# EAGLE library part M.2-SOM-BREAKOUT-BOARD-V0.2-0228_WAFER-HY2.0-4PWB (library M.2 SoM breakout board V1.0)
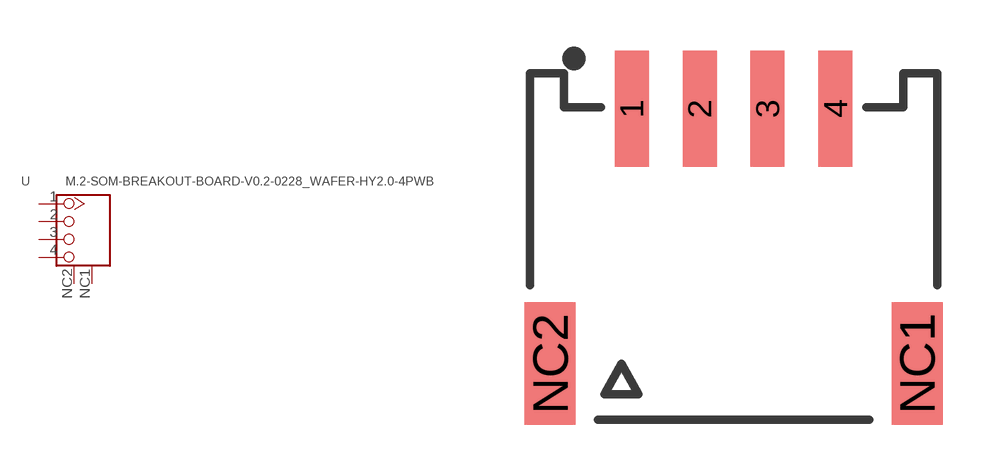
[diagram p3: symbol with the pads of M.2-SOM-BREAKOUT-BOARD-V0.2-0228_WAFER-HY2.0-4PWB; footprint M.2-SOM-BREAKOUT-BOARD-V0.2-0228_WAFER-HY2.0-4PWB]

Designator prefix -

## M.2-SOM-BREAKOUT-BOARD-V0.2-0228_WAFER-HY2.0-4PWB  [M.2-SOM-BREAKOUT-BOARD-V0.2-0228_WAFER-HY2.0-4PWB]
1  1
2  2
3  3
4  4
NC1  5
NC2  6

## Footprint M.2-SOM-BREAKOUT-BOARD-V0.2-0228_WAFER-HY2.0-4PWB (pad centres in mm)
smd 1 x 3.4: 1 -3,3.7; 2 -1,3.7; 3 1,3.7; 4 3,3.7
smd 1.5 x 3.6: NC1 5.4,-3.8; NC2 -5.4,-3.8